# EAGLE library part ADS7828E (library SW_Conversion)
12 Bit Analog to Digital Converter 8 Input 1 SAR 16-TSSOP
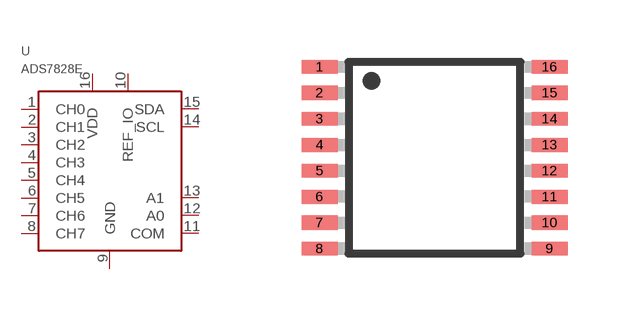
[diagram p1: symbol with the pads of TSSOP16; footprint TSSOP16]

Designator prefix U

## ADS7828E (CATEGORY: ADC; DESCRIPTION: 12 Bit Analog to Digital Converter 8 Input 1 SAR 16-TSSOP; MFGS: Texas Instruments,Texas Instruments; MPNS: ADS7828E/2K5,ADS7828E/250; PACKAGE: TSSOP-16; PART_NUMBER: ADS7828E; SW_PART_NUMBER: SW0000849)  [TSSOP16]
1  CH0
2  CH1
3  CH2
4  CH3
5  CH4
6  CH5
7  CH6
8  CH7
9  GND  pwr
10  REF_IO
11  COM
12  A0
13  A1
14  SCL
15  SDA
16  VDD  pwr

## Footprint TSSOP16 (pad centres in mm)
16-Lead Thin Shrink Small Outline Package [TSSOP] (RU-16) Source: 8x ADG1408_1409.pdf
smd 0.9 x 0.35: 1 -2.875,2.275; 2 -2.875,1.625; 3 -2.875,0.975; 4 -2.875,0.325; 5 -2.875,-0.325; 6 -2.875,-0.975; 7 -2.875,-1.625; 8 -2.875,-2.275; 9 2.875,-2.275; 10 2.875,-1.625; 11 2.875,-0.975; 12 2.875,-0.325; 13 2.875,0.325; 14 2.875,0.975; 15 2.875,1.625; 16 2.875,2.275